# Altium footprint library OLED_0.96-30P-P0.70-12864.PcbLib: 1 footprints
Each footprint in its own frame and in the unit in brackets; x right, y up, seen from the top. Pads: shape width x height; smd on the part's side, far side on the other; paste and mask are expansions set on the pad; w line width, h text height; cw(c..) or ccw(c..) is an arc to the next point about the centre after c.
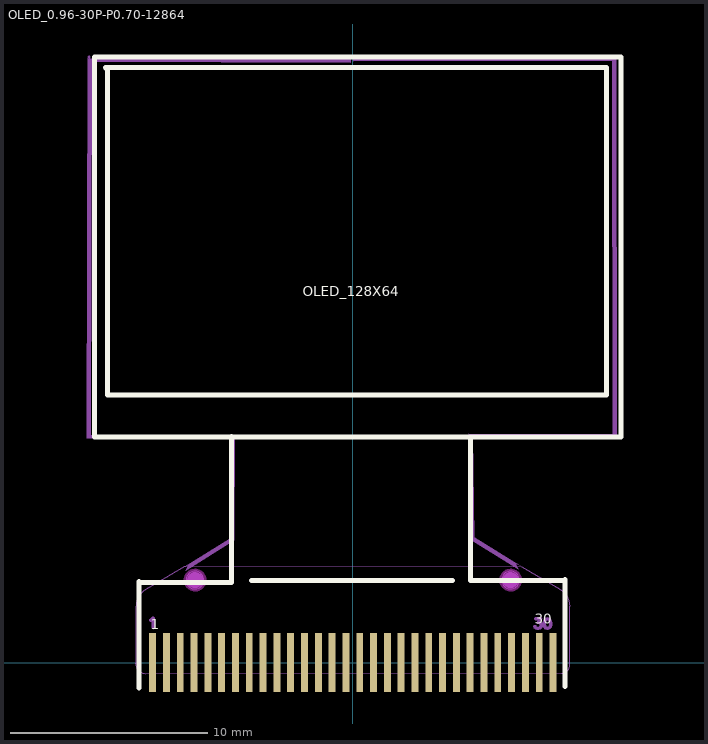
[diagram p0: the footprint, top view; thin cyan lines are the x and y axes]

## OLED_0.96-30P-P0.70-12864 [mm]
pads (30):
  rect 0.351x3 smd: 1(-10.15,0.002) 2(-9.45,0) 3(-8.75,0) 4(-8.05,0) 5(-7.35,0) 6(-6.65,0) 7(-5.95,0) 8(-5.25,0) 9(-4.55,0) 10(-3.85,0) 11(-3.15,0) 12(-2.45,0) 13(-1.75,0) 14(-1.05,0) 15(-0.35,0) 16(0.35,0) 17(1.05,0) 18(1.75,0) 19(2.45,0) 20(3.15,0) 21(3.85,0) 22(4.55,0) 23(5.25,0) 24(5.95,0) 25(6.65,0) 26(7.35,0) 27(8.05,0) 28(8.75,-0.001) 29(9.45,-0.002) 30(10.15,-0.002)
Top Overlay:
  lines w0.254: -12.442,30.16 12.858,30.16 12.858,13.56 -12.442,13.56 -12.442,30.06 -12.542,30.16 -12.242,30.16 -11.842,30.16 ; -10.848,-1.302 -10.848,4.098 ; -10.842,4.06 -6.142,4.06 -6.142,11.46 ; -5.142,4.16 5.058,4.16 ; 5.958,11.36 5.958,4.16 10.758,4.16 ; 10.752,-1.202 10.752,4.198 ; -13.1,11.44 -13.1,30.7 13.6,30.7 13.6,11.44 -13.1,11.44
  text "1" at -10.25,1.7 h0.51
  text "30" at 9.23,1.96 h0.51
  text "OLED_128X64" at -2.541,18.567 h0.51
Keep-Out Layer:
  board cut-out: 8.45,4.18 8.449,4.269 8.379,4.431 8.252,4.555 8.089,4.623 7.912,4.623 7.748,4.556 7.621,4.431 7.552,4.269 7.55,4.18 7.552,4.092 7.621,3.929 7.748,3.805 7.911,3.738 8.089,3.738 8.252,3.805 8.379,3.929 8.448,4.092 8.45,4.18
  board cut-out: -7.55,4.18 -7.551,4.269 -7.621,4.431 -7.747,4.555 -7.911,4.623 -8.088,4.623 -8.252,4.556 -8.379,4.431 -8.448,4.269 -8.45,4.18 -8.448,4.092 -8.379,3.929 -8.252,3.805 -8.089,3.738 -7.911,3.738 -7.748,3.805 -7.621,3.929 -7.551,4.092 -7.55,4.18
Keep-Out Layer:
  circle w0.254: c8,4.18 r0.45
  circle w0.025: c8,4.18 r0.45
  circle w0.254: c-8,4.18 r0.45
  circle w0.025: c-8,4.18 r0.45
Mechanical 1:
  circle w0.025: c8,4.18 r0.45
  circle w0.025: c-8,4.18 r0.45
Mechanical 6:
  circle w0.4: c-8,4.18 r0.2
  circle w0.4: c8,4.18 r0.2
  region: -8.58,4.84 -6.24,6.27 -6.17,11.38 -13.48,11.36 -13.44,30.64 -0.11,30.62 -0.11,30.41 -13.24,30.45 -13.28,11.54 -6.08,11.51 -5.98,11.52 -6.02,6.26 -6.02,6.19 -8.48,4.66 -8.35,4.94
  region: 8.49,4.91 6.15,6.34 6.08,11.45 13.39,11.43 13.35,30.71 0.02,30.69 0.02,30.48 13.15,30.52 13.19,11.61 5.99,11.58 5.89,11.59 5.93,6.33 5.93,6.26 8.39,4.73 8.26,5.01
  region: -10.32,2.13 -10.28,2.08 -10.23,2.08 -10.19,2.09 -10.2,1.75 -10.12,1.68 -10.05,1.75 -10.05,2.27 -10.1,2.32 -10.17,2.31 -10.24,2.24 -10.31,2.2
  region: 10.02,1.72 9.92,1.66 9.82,1.66 9.73,1.7 9.66,1.78 9.64,1.9 9.64,2.05 9.66,2.15 9.73,2.26 9.86,2.3 9.85,2.14 9.82,2.12 9.8,2.09 9.78,2.01 9.78,1.95 9.8,1.86 9.83,1.82 9.87,1.81 9.91,1.82 9.93,1.85 9.95,1.95 9.95,2 9.93,2.09 9.91,2.13 9.86,2.15 9.87,2.3 9.95,2.28 10.01,2.25 10.07,2.17 10.11,2.03 10.1,1.91 10.08,1.8
  region: 9.2,2.2 9.24,2.15 9.38,2.15 9.32,2.05 9.32,2 9.36,1.96 9.44,1.95 9.46,1.95 9.48,1.91 9.48,1.88 9.46,1.84 9.43,1.82 9.4,1.8 9.35,1.81 9.31,1.82 9.29,1.88 9.24,1.9 9.17,1.88 9.15,1.84 9.18,1.75 9.25,1.69 9.33,1.66 9.43,1.66 9.53,1.69 9.6,1.76 9.62,1.84 9.63,1.94 9.6,2.03 9.55,2.07 9.53,2.09 9.59,2.17 9.61,2.22 9.59,2.27 9.55,2.3 9.25,2.3 9.2,2.25
Mechanical 15:
  drawing of 49 lines, arcs and shapes, not listed